# EAGLE library part TPS54308DDCT (library Main_lib)
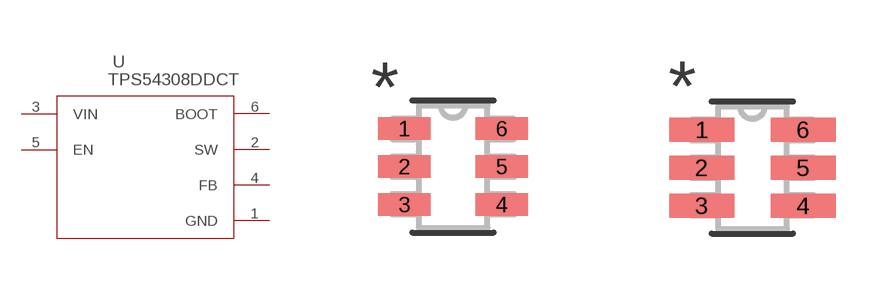
[diagram p0: symbol with the pads of DDC6; footprints DDC6, DDC6-M]

Designator prefix U

## TPS54308DDCT (MANUFACTURER_PART_NUMBER: TPS54308DDCT; VENDOR: Texas Instruments)  [DDC6]
1  GND  pas
2  SW  pas
3  VIN  pas
4  FB  pas
5  EN  pas
6  BOOT  pas

## TPS54308DDCTDDC6-M (MANUFACTURER_PART_NUMBER: TPS54308DDCT; VENDOR: Texas Instruments)  [DDC6-M]
Pads as for DDC6

## TPS54308DDCTDDC6-L (MANUFACTURER_PART_NUMBER: TPS54308DDCT; VENDOR: Texas Instruments)  [DDC6-L]
Pads as for DDC6

## Footprint DDC6 (pad centres in mm)
smd 1.321 x 0.559: 1 -1.219,0.95; 2 -1.219,0; 3 -1.219,-0.95; 4 1.219,-0.95; 5 1.219,0; 6 1.219,0.95

## Footprint DDC6-M (pad centres in mm)
smd 1.626 x 0.61: 1 -1.27,0.95; 2 -1.27,0; 3 -1.27,-0.95; 4 1.27,-0.95; 5 1.27,0; 6 1.27,0.95

## Footprint DDC6-L (pad centres in mm)
smd 1.016 x 0.508: 1 -1.168,0.95; 2 -1.168,0; 3 -1.168,-0.95; 4 1.168,-0.95; 5 1.168,0; 6 1.168,0.95